# Altium footprint library Connector_Wuerth.PcbLib: 46 footprints (part 2 of 3)
Each footprint in its own frame and in the unit in brackets; x right, y up, seen from the top. Pads: shape width x height; smd on the part's side, far side on the other; paste and mask are expansions set on the pad; w line width, h text height; cw(c..) or ccw(c..) is an arc to the next point about the centre after c.
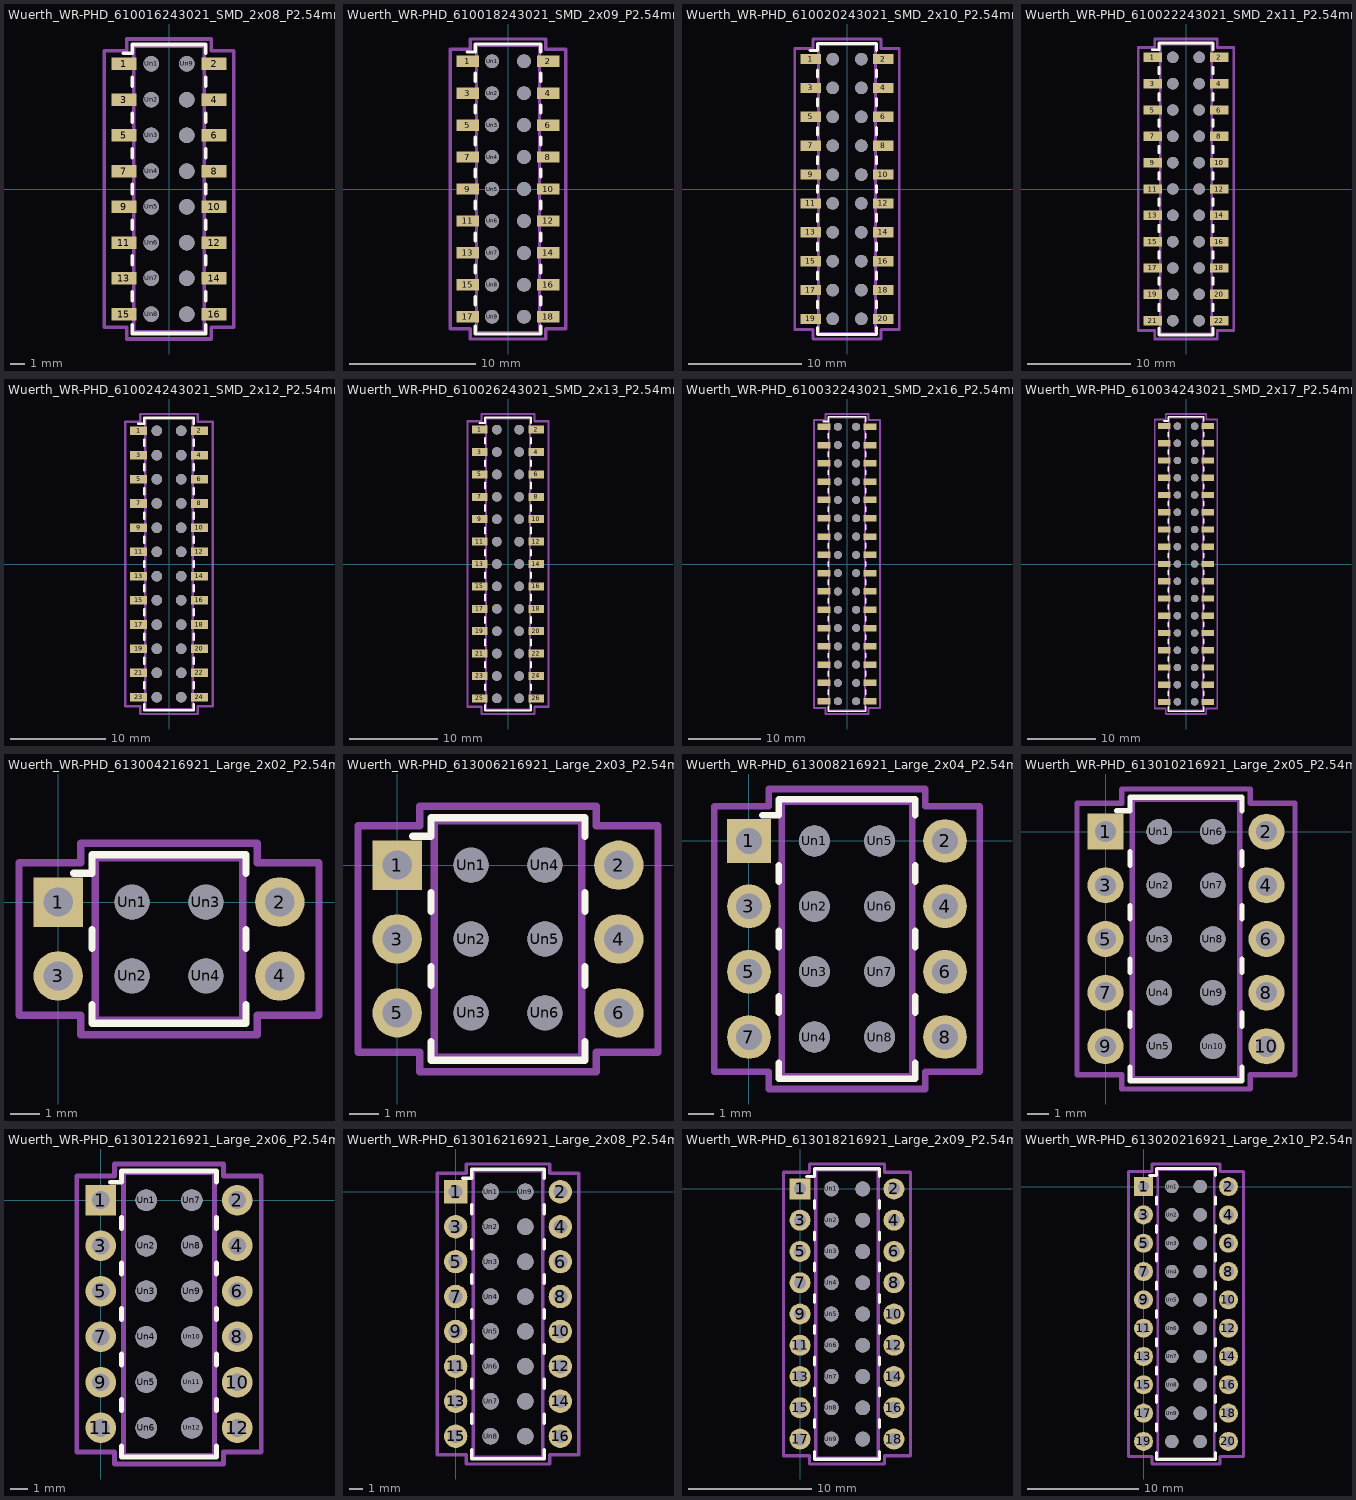
[diagram p1: the footprints below, top view; thin cyan lines are the x and y axes]

## Wuerth_WR-PHD_610016243021_SMD_2x08_P2.54mm_Vertical [mm]
pads (32):
  rect 1.8x0.9 smd: 1(-3.2,8.89) 2(3.2,8.89) 3(-3.2,6.35) 4(3.2,6.35) 5(-3.2,3.81) 6(3.2,3.81) 7(-3.2,1.27) 8(3.2,1.27) 9(-3.2,-1.27) 10(3.2,-1.27) 11(-3.2,-3.81) 12(3.2,-3.81) 13(-3.2,-6.35) 14(3.2,-6.35) 15(-3.2,-8.89) 16(3.2,-8.89)
  round 1.1 hole 1.1: Un1(-1.27,8.89) Un2(-1.27,6.35) Un3(-1.27,3.81) Un4(-1.27,1.27) Un5(-1.27,-1.27) Un6(-1.27,-3.81) Un7(-1.27,-6.35) Un8(-1.27,-8.89) Un9(1.27,8.89) Un10(1.27,6.35) Un11(1.27,3.81) Un12(1.27,1.27) Un13(1.27,-1.27) Un14(1.27,-3.81) Un15(1.27,-6.35) Un16(1.27,-8.89)
F.SilkS:
  lines w0.254: -3.245,9.635 -2.61,9.635 -2.61,10.27 2.61,10.27 2.61,9.635 ; -2.61,-9.635 -2.61,-10.27 2.61,-10.27 2.61,-9.635 ; -2.61,-7.938 -2.61,-7.302 ; -2.61,-5.397 -2.61,-4.763 ; -2.61,-2.857 -2.61,-2.222 ; -2.61,-0.318 -2.61,0.318 ; -2.61,2.222 -2.61,2.857 ; -2.61,4.763 -2.61,5.397 ; -2.61,7.302 -2.61,7.938 ; 2.61,-7.938 2.61,-7.302 ; 2.61,-5.397 2.61,-4.763 ; 2.61,-2.857 2.61,-2.222 ; 2.61,-0.318 2.61,0.318 ; 2.61,2.222 2.61,2.857 ; 2.61,4.763 2.61,5.397 ; 2.61,7.302 2.61,7.938
Top Assembly:
  lines w0.254: -2.5,-10.16 2.5,-10.16 2.5,10.16 -2.5,10.16 -2.5,-10.16
  text "'.Designator'" at -4.047,8.62 h1
Top Courtyard:
  lines w0.254: -4.6,-9.84 -3,-9.84 -3,-10.66 3,-10.66 3,-9.84 4.6,-9.84 4.6,9.84 3,9.84 3,10.66 -3,10.66 -3,9.84 -4.6,9.84 -4.6,-9.84
Top Designator:
  text ".Designator" at -7.618,-0.508 h1.52

## Wuerth_WR-PHD_610018243021_SMD_2x09_P2.54mm_Vertical [mm]
pads (36):
  rect 1.8x0.9 smd: 1(-3.2,10.16) 2(3.2,10.16) 3(-3.2,7.62) 4(3.2,7.62) 5(-3.2,5.08) 6(3.2,5.08) 7(-3.2,2.54) 8(3.2,2.54) 9(-3.2,0) 10(3.2,0) 11(-3.2,-2.54) 12(3.2,-2.54) 13(-3.2,-5.08) 14(3.2,-5.08) 15(-3.2,-7.62) 16(3.2,-7.62) 17(-3.2,-10.16) 18(3.2,-10.16)
  round 1.1 hole 1.1: Un1(-1.27,10.16) Un2(-1.27,7.62) Un3(-1.27,5.08) Un4(-1.27,2.54) Un5(-1.27,0) Un6(-1.27,-2.54) Un7(-1.27,-5.08) Un8(-1.27,-7.62) Un9(-1.27,-10.16) Un10(1.27,10.16) Un11(1.27,7.62) Un12(1.27,5.08) Un13(1.27,2.54) Un14(1.27,0) Un15(1.27,-2.54) Un16(1.27,-5.08) Un17(1.27,-7.62) Un18(1.27,-10.16)
F.SilkS:
  lines w0.254: -3.245,10.905 -2.61,10.905 -2.61,11.54 2.61,11.54 2.61,10.905 ; -2.61,-10.905 -2.61,-11.54 2.61,-11.54 2.61,-10.905 ; -2.61,-9.207 -2.61,-8.572 ; -2.61,-6.667 -2.61,-6.032 ; -2.61,-4.127 -2.61,-3.492 ; -2.61,-1.587 -2.61,-0.953 ; -2.61,0.953 -2.61,1.587 ; -2.61,3.492 -2.61,4.127 ; -2.61,6.032 -2.61,6.667 ; -2.61,8.572 -2.61,9.207 ; 2.61,-9.207 2.61,-8.572 ; 2.61,-6.667 2.61,-6.032 ; 2.61,-4.127 2.61,-3.492 ; 2.61,-1.587 2.61,-0.953 ; 2.61,0.953 2.61,1.587 ; 2.61,3.492 2.61,4.127 ; 2.61,6.032 2.61,6.667 ; 2.61,8.572 2.61,9.207
Top Assembly:
  lines w0.254: -2.5,-11.43 2.5,-11.43 2.5,11.43 -2.5,11.43 -2.5,-11.43
  text "'.Designator'" at -4.047,9.89 h1
Top Courtyard:
  lines w0.254: -4.6,-11.11 -3,-11.11 -3,-11.93 3,-11.93 3,-11.11 4.6,-11.11 4.6,11.11 3,11.11 3,11.93 -3,11.93 -3,11.11 -4.6,11.11 -4.6,-11.11
Top Designator:
  text ".Designator" at -7.618,-0.508 h1.52

## Wuerth_WR-PHD_610020243021_SMD_2x10_P2.54mm_Vertical [mm]
pads (40):
  rect 1.8x0.9 smd: 1(-3.2,11.43) 2(3.2,11.43) 3(-3.2,8.89) 4(3.2,8.89) 5(-3.2,6.35) 6(3.2,6.35) 7(-3.2,3.81) 8(3.2,3.81) 9(-3.2,1.27) 10(3.2,1.27) 11(-3.2,-1.27) 12(3.2,-1.27) 13(-3.2,-3.81) 14(3.2,-3.81) 15(-3.2,-6.35) 16(3.2,-6.35) 17(-3.2,-8.89) 18(3.2,-8.89) 19(-3.2,-11.43) 20(3.2,-11.43)
  round 1.1 hole 1.1: Un1(-1.27,11.43) Un2(-1.27,8.89) Un3(-1.27,6.35) Un4(-1.27,3.81) Un5(-1.27,1.27) Un6(-1.27,-1.27) Un7(-1.27,-3.81) Un8(-1.27,-6.35) Un9(-1.27,-8.89) Un10(-1.27,-11.43) Un11(1.27,11.43) Un12(1.27,8.89) Un13(1.27,6.35) Un14(1.27,3.81) Un15(1.27,1.27) Un16(1.27,-1.27) Un17(1.27,-3.81) Un18(1.27,-6.35) Un19(1.27,-8.89) Un20(1.27,-11.43)
F.SilkS:
  lines w0.254: -3.245,12.175 -2.61,12.175 -2.61,12.81 2.61,12.81 2.61,12.175 ; -2.61,-12.175 -2.61,-12.81 2.61,-12.81 2.61,-12.175 ; -2.61,-10.477 -2.61,-9.842 ; -2.61,-7.938 -2.61,-7.302 ; -2.61,-5.397 -2.61,-4.763 ; -2.61,-2.857 -2.61,-2.222 ; -2.61,-0.318 -2.61,0.318 ; -2.61,2.222 -2.61,2.857 ; -2.61,4.763 -2.61,5.397 ; -2.61,7.302 -2.61,7.938 ; -2.61,9.842 -2.61,10.477 ; 2.61,-10.477 2.61,-9.842 ; 2.61,-7.938 2.61,-7.302 ; 2.61,-5.397 2.61,-4.763 ; 2.61,-2.857 2.61,-2.222 ; 2.61,-0.318 2.61,0.318 ; 2.61,2.222 2.61,2.857 ; 2.61,4.763 2.61,5.397 ; 2.61,7.302 2.61,7.938 ; 2.61,9.842 2.61,10.477
Top Assembly:
  lines w0.254: -2.5,-12.7 2.5,-12.7 2.5,12.7 -2.5,12.7 -2.5,-12.7
  text "'.Designator'" at -4.047,11.16 h1
Top Courtyard:
  lines w0.254: -4.6,-12.38 -3,-12.38 -3,-13.2 3,-13.2 3,-12.38 4.6,-12.38 4.6,12.38 3,12.38 3,13.2 -3,13.2 -3,12.38 -4.6,12.38 -4.6,-12.38
Top Designator:
  text ".Designator" at -7.618,-0.508 h1.52

## Wuerth_WR-PHD_610022243021_SMD_2x11_P2.54mm_Vertical [mm]
pads (44):
  rect 1.8x0.9 smd: 1(-3.2,12.7) 2(3.2,12.7) 3(-3.2,10.16) 4(3.2,10.16) 5(-3.2,7.62) 6(3.2,7.62) 7(-3.2,5.08) 8(3.2,5.08) 9(-3.2,2.54) 10(3.2,2.54) 11(-3.2,0) 12(3.2,0) 13(-3.2,-2.54) 14(3.2,-2.54) 15(-3.2,-5.08) 16(3.2,-5.08) 17(-3.2,-7.62) 18(3.2,-7.62) 19(-3.2,-10.16) 20(3.2,-10.16) 21(-3.2,-12.7) 22(3.2,-12.7)
  round 1.1 hole 1.1: Un1(-1.27,12.7) Un2(-1.27,10.16) Un3(-1.27,7.62) Un4(-1.27,5.08) Un5(-1.27,2.54) Un6(-1.27,0) Un7(-1.27,-2.54) Un8(-1.27,-5.08) Un9(-1.27,-7.62) Un10(-1.27,-10.16) Un11(-1.27,-12.7) Un12(1.27,12.7) Un13(1.27,10.16) Un14(1.27,7.62) Un15(1.27,5.08) Un16(1.27,2.54) Un17(1.27,0) Un18(1.27,-2.54) Un19(1.27,-5.08) Un20(1.27,-7.62) Un21(1.27,-10.16) Un22(1.27,-12.7)
F.SilkS:
  lines w0.254: -3.245,13.445 -2.61,13.445 -2.61,14.08 2.61,14.08 2.61,13.445 ; -2.61,-13.445 -2.61,-14.08 2.61,-14.08 2.61,-13.445 ; -2.61,-11.747 -2.61,-11.112 ; -2.61,-9.207 -2.61,-8.572 ; -2.61,-6.667 -2.61,-6.032 ; -2.61,-4.127 -2.61,-3.492 ; -2.61,-1.587 -2.61,-0.953 ; -2.61,0.953 -2.61,1.587 ; -2.61,3.492 -2.61,4.127 ; -2.61,6.032 -2.61,6.667 ; -2.61,8.572 -2.61,9.207 ; -2.61,11.112 -2.61,11.747 ; 2.61,-11.747 2.61,-11.112 ; 2.61,-9.207 2.61,-8.572 ; 2.61,-6.667 2.61,-6.032 ; 2.61,-4.127 2.61,-3.492 ; 2.61,-1.587 2.61,-0.953 ; 2.61,0.953 2.61,1.587 ; 2.61,3.492 2.61,4.127 ; 2.61,6.032 2.61,6.667 ; 2.61,8.572 2.61,9.207 ; 2.61,11.112 2.61,11.747
Top Assembly:
  lines w0.254: -2.5,-13.97 2.5,-13.97 2.5,13.97 -2.5,13.97 -2.5,-13.97
  text "'.Designator'" at -4.047,12.43 h1
Top Courtyard:
  lines w0.254: -4.6,-13.65 -3,-13.65 -3,-14.47 3,-14.47 3,-13.65 4.6,-13.65 4.6,13.65 3,13.65 3,14.47 -3,14.47 -3,13.65 -4.6,13.65 -4.6,-13.65
Top Designator:
  text ".Designator" at -7.618,-0.508 h1.52

## Wuerth_WR-PHD_610024243021_SMD_2x12_P2.54mm_Vertical [mm]
pads (48):
  rect 1.8x0.9 smd: 1(-3.2,13.97) 2(3.2,13.97) 3(-3.2,11.43) 4(3.2,11.43) 5(-3.2,8.89) 6(3.2,8.89) 7(-3.2,6.35) 8(3.2,6.35) 9(-3.2,3.81) 10(3.2,3.81) 11(-3.2,1.27) 12(3.2,1.27) 13(-3.2,-1.27) 14(3.2,-1.27) 15(-3.2,-3.81) 16(3.2,-3.81) 17(-3.2,-6.35) 18(3.2,-6.35) 19(-3.2,-8.89) 20(3.2,-8.89) 21(-3.2,-11.43) 22(3.2,-11.43) 23(-3.2,-13.97) 24(3.2,-13.97)
  round 1.1 hole 1.1: Un1(-1.27,13.97) Un2(-1.27,11.43) Un3(-1.27,8.89) Un4(-1.27,6.35) Un5(-1.27,3.81) Un6(-1.27,1.27) Un7(-1.27,-1.27) Un8(-1.27,-3.81) Un9(-1.27,-6.35) Un10(-1.27,-8.89) Un11(-1.27,-11.43) Un12(-1.27,-13.97) Un13(1.27,13.97) Un14(1.27,11.43) Un15(1.27,8.89) Un16(1.27,6.35) Un17(1.27,3.81) Un18(1.27,1.27) Un19(1.27,-1.27) Un20(1.27,-3.81) Un21(1.27,-6.35) Un22(1.27,-8.89) Un23(1.27,-11.43) Un24(1.27,-13.97)
F.SilkS:
  lines w0.254: -3.245,14.715 -2.61,14.715 -2.61,15.35 2.61,15.35 2.61,14.715 ; -2.61,-14.715 -2.61,-15.35 2.61,-15.35 2.61,-14.715 ; -2.61,-13.018 -2.61,-12.383 ; -2.61,-10.477 -2.61,-9.842 ; -2.61,-7.938 -2.61,-7.302 ; -2.61,-5.397 -2.61,-4.763 ; -2.61,-2.857 -2.61,-2.222 ; -2.61,-0.318 -2.61,0.318 ; -2.61,2.222 -2.61,2.857 ; -2.61,4.763 -2.61,5.397 ; -2.61,7.302 -2.61,7.938 ; -2.61,9.842 -2.61,10.477 ; -2.61,12.383 -2.61,13.018 ; 2.61,-13.018 2.61,-12.383 ; 2.61,-10.477 2.61,-9.842 ; 2.61,-7.938 2.61,-7.302 ; 2.61,-5.397 2.61,-4.763 ; 2.61,-2.857 2.61,-2.222 ; 2.61,-0.318 2.61,0.318 ; 2.61,2.222 2.61,2.857 ; 2.61,4.763 2.61,5.397 ; 2.61,7.302 2.61,7.938 ; 2.61,9.842 2.61,10.477 ; 2.61,12.383 2.61,13.018
Top Assembly:
  lines w0.254: -2.5,-15.24 2.5,-15.24 2.5,15.24 -2.5,15.24 -2.5,-15.24
  text "'.Designator'" at -4.047,13.7 h1
Top Courtyard:
  lines w0.254: -4.6,-14.92 -3,-14.92 -3,-15.74 3,-15.74 3,-14.92 4.6,-14.92 4.6,14.92 3,14.92 3,15.74 -3,15.74 -3,14.92 -4.6,14.92 -4.6,-14.92
Top Designator:
  text ".Designator" at -7.618,-0.508 h1.52

## Wuerth_WR-PHD_610026243021_SMD_2x13_P2.54mm_Vertical [mm]
pads (52):
  rect 1.8x0.9 smd: 1(-3.2,15.24) 2(3.2,15.24) 3(-3.2,12.7) 4(3.2,12.7) 5(-3.2,10.16) 6(3.2,10.16) 7(-3.2,7.62) 8(3.2,7.62) 9(-3.2,5.08) 10(3.2,5.08) 11(-3.2,2.54) 12(3.2,2.54) 13(-3.2,0) 14(3.2,0) 15(-3.2,-2.54) 16(3.2,-2.54) 17(-3.2,-5.08) 18(3.2,-5.08) 19(-3.2,-7.62) 20(3.2,-7.62) 21(-3.2,-10.16) 22(3.2,-10.16) 23(-3.2,-12.7) 24(3.2,-12.7) 25(-3.2,-15.24) 26(3.2,-15.24)
  round 1.1 hole 1.1: Un1(-1.27,15.24) Un2(-1.27,12.7) Un3(-1.27,10.16) Un4(-1.27,7.62) Un5(-1.27,5.08) Un6(-1.27,2.54) Un7(-1.27,0) Un8(-1.27,-2.54) Un9(-1.27,-5.08) Un10(-1.27,-7.62) Un11(-1.27,-10.16) Un12(-1.27,-12.7) Un13(-1.27,-15.24) Un14(1.27,15.24) Un15(1.27,12.7) Un16(1.27,10.16) Un17(1.27,7.62) Un18(1.27,5.08) Un19(1.27,2.54) Un20(1.27,0) Un21(1.27,-2.54) Un22(1.27,-5.08) Un23(1.27,-7.62) Un24(1.27,-10.16) Un25(1.27,-12.7) Un26(1.27,-15.24)
F.SilkS:
  lines w0.254: -3.245,15.985 -2.61,15.985 -2.61,16.62 2.61,16.62 2.61,15.985 ; -2.61,-15.985 -2.61,-16.62 2.61,-16.62 2.61,-15.985 ; -2.61,-14.287 -2.61,-13.652 ; -2.61,-11.747 -2.61,-11.112 ; -2.61,-9.207 -2.61,-8.572 ; -2.61,-6.667 -2.61,-6.032 ; -2.61,-4.127 -2.61,-3.492 ; -2.61,-1.587 -2.61,-0.953 ; -2.61,0.953 -2.61,1.587 ; -2.61,3.492 -2.61,4.127 ; -2.61,6.032 -2.61,6.667 ; -2.61,8.572 -2.61,9.207 ; -2.61,11.112 -2.61,11.747 ; -2.61,13.652 -2.61,14.287 ; 2.61,-14.287 2.61,-13.652 ; 2.61,-11.747 2.61,-11.112 ; 2.61,-9.207 2.61,-8.572 ; 2.61,-6.667 2.61,-6.032 ; 2.61,-4.127 2.61,-3.492 ; 2.61,-1.587 2.61,-0.953 ; 2.61,0.953 2.61,1.587 ; 2.61,3.492 2.61,4.127 ; 2.61,6.032 2.61,6.667 ; 2.61,8.572 2.61,9.207 ; 2.61,11.112 2.61,11.747 ; 2.61,13.652 2.61,14.287
Top Assembly:
  lines w0.254: -2.5,-16.51 2.5,-16.51 2.5,16.51 -2.5,16.51 -2.5,-16.51
  text "'.Designator'" at -4.047,14.97 h1
Top Courtyard:
  lines w0.254: -4.6,-16.19 -3,-16.19 -3,-17.01 3,-17.01 3,-16.19 4.6,-16.19 4.6,16.19 3,16.19 3,17.01 -3,17.01 -3,16.19 -4.6,16.19 -4.6,-16.19
Top Designator:
  text ".Designator" at -7.618,-0.508 h1.52

## Wuerth_WR-PHD_610032243021_SMD_2x16_P2.54mm_Vertical [mm]
pads (64):
  rect 1.8x0.9 smd: 1(-3.2,19.05) 2(3.2,19.05) 3(-3.2,16.51) 4(3.2,16.51) 5(-3.2,13.97) 6(3.2,13.97) 7(-3.2,11.43) 8(3.2,11.43) 9(-3.2,8.89) 10(3.2,8.89) 11(-3.2,6.35) 12(3.2,6.35) 13(-3.2,3.81) 14(3.2,3.81) 15(-3.2,1.27) 16(3.2,1.27) 17(-3.2,-1.27) 18(3.2,-1.27) 19(-3.2,-3.81) 20(3.2,-3.81) 21(-3.2,-6.35) 22(3.2,-6.35) 23(-3.2,-8.89) 24(3.2,-8.89) 25(-3.2,-11.43) 26(3.2,-11.43) 27(-3.2,-13.97) 28(3.2,-13.97) 29(-3.2,-16.51) 30(3.2,-16.51) 31(-3.2,-19.05) 32(3.2,-19.05)
  round 1.1 hole 1.1: Un1(-1.27,19.05) Un2(-1.27,16.51) Un3(-1.27,13.97) Un4(-1.27,11.43) Un5(-1.27,8.89) Un6(-1.27,6.35) Un7(-1.27,3.81) Un8(-1.27,1.27) Un9(-1.27,-1.27) Un10(-1.27,-3.81) Un11(-1.27,-6.35) Un12(-1.27,-8.89) Un13(-1.27,-11.43) Un14(-1.27,-13.97) Un15(-1.27,-16.51) Un16(-1.27,-19.05) Un17(1.27,19.05) Un18(1.27,16.51) Un19(1.27,13.97) Un20(1.27,11.43) Un21(1.27,8.89) Un22(1.27,6.35) Un23(1.27,3.81) Un24(1.27,1.27) Un25(1.27,-1.27) Un26(1.27,-3.81) Un27(1.27,-6.35) Un28(1.27,-8.89) Un29(1.27,-11.43) Un30(1.27,-13.97) Un31(1.27,-16.51) Un32(1.27,-19.05)
F.SilkS:
  lines w0.254: -3.245,19.795 -2.61,19.795 -2.61,20.43 2.61,20.43 2.61,19.795 ; -2.61,-19.795 -2.61,-20.43 2.61,-20.43 2.61,-19.795 ; -2.61,-18.098 -2.61,-17.462 ; -2.61,-15.557 -2.61,-14.922 ; -2.61,-13.018 -2.61,-12.383 ; -2.61,-10.477 -2.61,-9.842 ; -2.61,-7.938 -2.61,-7.302 ; -2.61,-5.397 -2.61,-4.763 ; -2.61,-2.857 -2.61,-2.222 ; -2.61,-0.318 -2.61,0.318 ; -2.61,2.222 -2.61,2.857 ; -2.61,4.763 -2.61,5.397 ; -2.61,7.302 -2.61,7.938 ; -2.61,9.842 -2.61,10.477 ; -2.61,12.383 -2.61,13.018 ; -2.61,14.922 -2.61,15.557 ; -2.61,17.462 -2.61,18.098 ; 2.61,-18.098 2.61,-17.462 ; 2.61,-15.557 2.61,-14.922 ; 2.61,-13.018 2.61,-12.383 ; 2.61,-10.477 2.61,-9.842 ; 2.61,-7.938 2.61,-7.302 ; 2.61,-5.397 2.61,-4.763 ; 2.61,-2.857 2.61,-2.222 ; 2.61,-0.318 2.61,0.318 ; 2.61,2.222 2.61,2.857 ; 2.61,4.763 2.61,5.397 ; 2.61,7.302 2.61,7.938 ; 2.61,9.842 2.61,10.477 ; 2.61,12.383 2.61,13.018 ; 2.61,14.922 2.61,15.557 ; 2.61,17.462 2.61,18.098
Top Assembly:
  lines w0.254: -2.5,-20.32 2.5,-20.32 2.5,20.32 -2.5,20.32 -2.5,-20.32
  text "'.Designator'" at -4.047,18.78 h1
Top Courtyard:
  lines w0.254: -4.6,-20 -3,-20 -3,-20.82 3,-20.82 3,-20 4.6,-20 4.6,20 3,20 3,20.82 -3,20.82 -3,20 -4.6,20 -4.6,-20
Top Designator:
  text ".Designator" at -7.618,-0.508 h1.52

## Wuerth_WR-PHD_610034243021_SMD_2x17_P2.54mm_Vertical [mm]
pads (68):
  rect 1.8x0.9 smd: 1(-3.2,20.32) 2(3.2,20.32) 3(-3.2,17.78) 4(3.2,17.78) 5(-3.2,15.24) 6(3.2,15.24) 7(-3.2,12.7) 8(3.2,12.7) 9(-3.2,10.16) 10(3.2,10.16) 11(-3.2,7.62) 12(3.2,7.62) 13(-3.2,5.08) 14(3.2,5.08) 15(-3.2,2.54) 16(3.2,2.54) 17(-3.2,0) 18(3.2,0) 19(-3.2,-2.54) 20(3.2,-2.54) 21(-3.2,-5.08) 22(3.2,-5.08) 23(-3.2,-7.62) 24(3.2,-7.62) 25(-3.2,-10.16) 26(3.2,-10.16) 27(-3.2,-12.7) 28(3.2,-12.7) 29(-3.2,-15.24) 30(3.2,-15.24) 31(-3.2,-17.78) 32(3.2,-17.78) 33(-3.2,-20.32) 34(3.2,-20.32)
  round 1.1 hole 1.1: Un1(-1.27,20.32) Un2(-1.27,17.78) Un3(-1.27,15.24) Un4(-1.27,12.7) Un5(-1.27,10.16) Un6(-1.27,7.62) Un7(-1.27,5.08) Un8(-1.27,2.54) Un9(-1.27,0) Un10(-1.27,-2.54) Un11(-1.27,-5.08) Un12(-1.27,-7.62) Un13(-1.27,-10.16) Un14(-1.27,-12.7) Un15(-1.27,-15.24) Un16(-1.27,-17.78) Un17(-1.27,-20.32) Un18(1.27,20.32) Un19(1.27,17.78) Un20(1.27,15.24) Un21(1.27,12.7) Un22(1.27,10.16) Un23(1.27,7.62) Un24(1.27,5.08) Un25(1.27,2.54) Un26(1.27,0) Un27(1.27,-2.54) Un28(1.27,-5.08) Un29(1.27,-7.62) Un30(1.27,-10.16) Un31(1.27,-12.7) Un32(1.27,-15.24) Un33(1.27,-17.78) Un34(1.27,-20.32)
F.SilkS:
  lines w0.254: -3.245,21.065 -2.61,21.065 -2.61,21.7 2.61,21.7 2.61,21.065 ; -2.61,-21.065 -2.61,-21.7 2.61,-21.7 2.61,-21.065 ; -2.61,-19.367 -2.61,-18.732 ; -2.61,-16.828 -2.61,-16.192 ; -2.61,-14.287 -2.61,-13.652 ; -2.61,-11.747 -2.61,-11.112 ; -2.61,-9.207 -2.61,-8.572 ; -2.61,-6.667 -2.61,-6.032 ; -2.61,-4.127 -2.61,-3.492 ; -2.61,-1.587 -2.61,-0.953 ; -2.61,0.953 -2.61,1.587 ; -2.61,3.492 -2.61,4.127 ; -2.61,6.032 -2.61,6.667 ; -2.61,8.572 -2.61,9.207 ; -2.61,11.112 -2.61,11.747 ; -2.61,13.652 -2.61,14.287 ; -2.61,16.192 -2.61,16.828 ; -2.61,18.732 -2.61,19.367 ; 2.61,-19.367 2.61,-18.732 ; 2.61,-16.828 2.61,-16.192 ; 2.61,-14.287 2.61,-13.652 ; 2.61,-11.747 2.61,-11.112 ; 2.61,-9.207 2.61,-8.572 ; 2.61,-6.667 2.61,-6.032 ; 2.61,-4.127 2.61,-3.492 ; 2.61,-1.587 2.61,-0.953 ; 2.61,0.953 2.61,1.587 ; 2.61,3.492 2.61,4.127 ; 2.61,6.032 2.61,6.667 ; 2.61,8.572 2.61,9.207 ; 2.61,11.112 2.61,11.747 ; 2.61,13.652 2.61,14.287 ; 2.61,16.192 2.61,16.828 ; 2.61,18.732 2.61,19.367
Top Assembly:
  lines w0.254: -2.5,-21.59 2.5,-21.59 2.5,21.59 -2.5,21.59 -2.5,-21.59
  text "'.Designator'" at -4.047,20.05 h1
Top Courtyard:
  lines w0.254: -4.6,-21.27 -3,-21.27 -3,-22.09 3,-22.09 3,-21.27 4.6,-21.27 4.6,21.27 3,21.27 3,22.09 -3,22.09 -3,21.27 -4.6,21.27 -4.6,-21.27
Top Designator:
  text ".Designator" at -7.618,-0.508 h1.52

## Wuerth_WR-PHD_613004216921_Large_2x02_P2.54mm_Vertical [mm]
pads (8):
  rect 1.7x1.7 hole 1: 1(0,0)
  round 1.7 hole 1: 2(7.62,0) 3(0,-2.54) 4(7.62,-2.54)
  round 1.2 hole 1.2: Un1(2.54,0) Un2(2.54,-2.54) Un3(5.08,0) Un4(5.08,-2.54)
F.SilkS:
  lines w0.254: 0.525,0.995 1.16,0.995 1.16,1.63 6.46,1.63 6.46,0.995 ; 1.16,-3.535 1.16,-4.17 6.46,-4.17 6.46,-3.535 ; 1.16,-1.587 1.16,-0.953 ; 6.46,-1.587 6.46,-0.953
Top Assembly:
  lines w0.254: 1.27,-4.06 6.35,-4.06 6.35,1.52 1.27,1.52 1.27,-4.06
  text "'.Designator'" at -0.237,-0.02 h1
Top Courtyard:
  lines w0.254: -1.35,-3.89 0.77,-3.89 0.77,-4.56 6.85,-4.56 6.85,-3.89 8.97,-3.89 8.97,1.35 6.85,1.35 6.85,2.02 0.77,2.02 0.77,1.35 -1.35,1.35 -1.35,-3.89
Top Designator:
  text ".Designator" at -3.808,-1.778 h1.52

## Wuerth_WR-PHD_613006216921_Large_2x03_P2.54mm_Vertical [mm]
pads (12):
  rect 1.7x1.7 hole 1: 1(0,0)
  round 1.7 hole 1: 2(7.62,0) 3(0,-2.54) 4(7.62,-2.54) 5(0,-5.08) 6(7.62,-5.08)
  round 1.2 hole 1.2: Un1(2.54,0) Un2(2.54,-2.54) Un3(2.54,-5.08) Un4(5.08,0) Un5(5.08,-2.54) Un6(5.08,-5.08)
F.SilkS:
  lines w0.254: 0.525,0.995 1.16,0.995 1.16,1.63 6.46,1.63 6.46,0.995 ; 1.16,-6.075 1.16,-6.71 6.46,-6.71 6.46,-6.075 ; 1.16,-4.127 1.16,-3.492 ; 1.16,-1.587 1.16,-0.953 ; 6.46,-4.127 6.46,-3.492 ; 6.46,-1.587 6.46,-0.953
Top Assembly:
  lines w0.254: 1.27,-6.6 6.35,-6.6 6.35,1.52 1.27,1.52 1.27,-6.6
  text "'.Designator'" at -0.237,-0.02 h1
Top Courtyard:
  lines w0.254: -1.35,-6.43 0.77,-6.43 0.77,-7.1 6.85,-7.1 6.85,-6.43 8.97,-6.43 8.97,1.35 6.85,1.35 6.85,2.02 0.77,2.02 0.77,1.35 -1.35,1.35 -1.35,-6.43
Top Designator:
  text ".Designator" at -3.808,-3.048 h1.52

## Wuerth_WR-PHD_613008216921_Large_2x04_P2.54mm_Vertical [mm]
pads (16):
  rect 1.7x1.7 hole 1: 1(0,0)
  round 1.7 hole 1: 2(7.62,0) 3(0,-2.54) 4(7.62,-2.54) 5(0,-5.08) 6(7.62,-5.08) 7(0,-7.62) 8(7.62,-7.62)
  round 1.2 hole 1.2: Un1(2.54,0) Un2(2.54,-2.54) Un3(2.54,-5.08) Un4(2.54,-7.62) Un5(5.08,0) Un6(5.08,-2.54) Un7(5.08,-5.08) Un8(5.08,-7.62)
F.SilkS:
  lines w0.254: 0.525,0.995 1.16,0.995 1.16,1.63 6.46,1.63 6.46,0.995 ; 1.16,-8.615 1.16,-9.25 6.46,-9.25 6.46,-8.615 ; 1.16,-6.667 1.16,-6.032 ; 1.16,-4.127 1.16,-3.492 ; 1.16,-1.587 1.16,-0.953 ; 6.46,-6.667 6.46,-6.032 ; 6.46,-4.127 6.46,-3.492 ; 6.46,-1.587 6.46,-0.953
Top Assembly:
  lines w0.254: 1.27,-9.14 6.35,-9.14 6.35,1.52 1.27,1.52 1.27,-9.14
  text "'.Designator'" at -0.237,-0.02 h1
Top Courtyard:
  lines w0.254: -1.35,-8.97 0.77,-8.97 0.77,-9.64 6.85,-9.64 6.85,-8.97 8.97,-8.97 8.97,1.35 6.85,1.35 6.85,2.02 0.77,2.02 0.77,1.35 -1.35,1.35 -1.35,-8.97
Top Designator:
  text ".Designator" at -3.808,-4.318 h1.52

## Wuerth_WR-PHD_613010216921_Large_2x05_P2.54mm_Vertical [mm]
pads (20):
  rect 1.7x1.7 hole 1: 1(0,0)
  round 1.7 hole 1: 2(7.62,0) 3(0,-2.54) 4(7.62,-2.54) 5(0,-5.08) 6(7.62,-5.08) 7(0,-7.62) 8(7.62,-7.62) 9(0,-10.16) 10(7.62,-10.16)
  round 1.2 hole 1.2: Un1(2.54,0) Un2(2.54,-2.54) Un3(2.54,-5.08) Un4(2.54,-7.62) Un5(2.54,-10.16) Un6(5.08,0) Un7(5.08,-2.54) Un8(5.08,-5.08) Un9(5.08,-7.62) Un10(5.08,-10.16)
F.SilkS:
  lines w0.254: 0.525,0.995 1.16,0.995 1.16,1.63 6.46,1.63 6.46,0.995 ; 1.16,-11.155 1.16,-11.79 6.46,-11.79 6.46,-11.155 ; 1.16,-9.207 1.16,-8.572 ; 1.16,-6.667 1.16,-6.032 ; 1.16,-4.127 1.16,-3.492 ; 1.16,-1.587 1.16,-0.953 ; 6.46,-9.207 6.46,-8.572 ; 6.46,-6.667 6.46,-6.032 ; 6.46,-4.127 6.46,-3.492 ; 6.46,-1.587 6.46,-0.953
Top Assembly:
  lines w0.254: 1.27,-11.68 6.35,-11.68 6.35,1.52 1.27,1.52 1.27,-11.68
  text "'.Designator'" at -0.237,-0.02 h1
Top Courtyard:
  lines w0.254: -1.35,-11.51 0.77,-11.51 0.77,-12.18 6.85,-12.18 6.85,-11.51 8.97,-11.51 8.97,1.35 6.85,1.35 6.85,2.02 0.77,2.02 0.77,1.35 -1.35,1.35 -1.35,-11.51
Top Designator:
  text ".Designator" at -3.808,-5.588 h1.52

## Wuerth_WR-PHD_613012216921_Large_2x06_P2.54mm_Vertical [mm]
pads (24):
  rect 1.7x1.7 hole 1: 1(0,0)
  round 1.7 hole 1: 2(7.62,0) 3(0,-2.54) 4(7.62,-2.54) 5(0,-5.08) 6(7.62,-5.08) 7(0,-7.62) 8(7.62,-7.62) 9(0,-10.16) 10(7.62,-10.16) 11(0,-12.7) 12(7.62,-12.7)
  round 1.2 hole 1.2: Un1(2.54,0) Un2(2.54,-2.54) Un3(2.54,-5.08) Un4(2.54,-7.62) Un5(2.54,-10.16) Un6(2.54,-12.7) Un7(5.08,0) Un8(5.08,-2.54) Un9(5.08,-5.08) Un10(5.08,-7.62) Un11(5.08,-10.16) Un12(5.08,-12.7)
F.SilkS:
  lines w0.254: 0.525,0.995 1.16,0.995 1.16,1.63 6.46,1.63 6.46,0.995 ; 1.16,-13.695 1.16,-14.33 6.46,-14.33 6.46,-13.695 ; 1.16,-11.747 1.16,-11.112 ; 1.16,-9.207 1.16,-8.572 ; 1.16,-6.667 1.16,-6.032 ; 1.16,-4.127 1.16,-3.492 ; 1.16,-1.587 1.16,-0.953 ; 6.46,-11.747 6.46,-11.112 ; 6.46,-9.207 6.46,-8.572 ; 6.46,-6.667 6.46,-6.032 ; 6.46,-4.127 6.46,-3.492 ; 6.46,-1.587 6.46,-0.953
Top Assembly:
  lines w0.254: 1.27,-14.22 6.35,-14.22 6.35,1.52 1.27,1.52 1.27,-14.22
  text "'.Designator'" at -0.237,-0.02 h1
Top Courtyard:
  lines w0.254: -1.35,-14.05 0.77,-14.05 0.77,-14.72 6.85,-14.72 6.85,-14.05 8.97,-14.05 8.97,1.35 6.85,1.35 6.85,2.02 0.77,2.02 0.77,1.35 -1.35,1.35 -1.35,-14.05
Top Designator:
  text ".Designator" at -3.808,-6.858 h1.52

## Wuerth_WR-PHD_613016216921_Large_2x08_P2.54mm_Vertical [mm]
pads (32):
  rect 1.7x1.7 hole 1: 1(0,0)
  round 1.7 hole 1: 2(7.62,0) 3(0,-2.54) 4(7.62,-2.54) 5(0,-5.08) 6(7.62,-5.08) 7(0,-7.62) 8(7.62,-7.62) 9(0,-10.16) 10(7.62,-10.16) 11(0,-12.7) 12(7.62,-12.7) 13(0,-15.24) 14(7.62,-15.24) 15(0,-17.78) 16(7.62,-17.78)
  round 1.2 hole 1.2: Un1(2.54,0) Un2(2.54,-2.54) Un3(2.54,-5.08) Un4(2.54,-7.62) Un5(2.54,-10.16) Un6(2.54,-12.7) Un7(2.54,-15.24) Un8(2.54,-17.78) Un9(5.08,0) Un10(5.08,-2.54) Un11(5.08,-5.08) Un12(5.08,-7.62) Un13(5.08,-10.16) Un14(5.08,-12.7) Un15(5.08,-15.24) Un16(5.08,-17.78)
F.SilkS:
  lines w0.254: 0.525,0.995 1.16,0.995 1.16,1.63 6.46,1.63 6.46,0.995 ; 1.16,-18.775 1.16,-19.41 6.46,-19.41 6.46,-18.775 ; 1.16,-16.828 1.16,-16.192 ; 1.16,-14.287 1.16,-13.652 ; 1.16,-11.747 1.16,-11.112 ; 1.16,-9.207 1.16,-8.572 ; 1.16,-6.667 1.16,-6.032 ; 1.16,-4.127 1.16,-3.492 ; 1.16,-1.587 1.16,-0.953 ; 6.46,-16.828 6.46,-16.192 ; 6.46,-14.287 6.46,-13.652 ; 6.46,-11.747 6.46,-11.112 ; 6.46,-9.207 6.46,-8.572 ; 6.46,-6.667 6.46,-6.032 ; 6.46,-4.127 6.46,-3.492 ; 6.46,-1.587 6.46,-0.953
Top Assembly:
  lines w0.254: 1.27,-19.3 6.35,-19.3 6.35,1.52 1.27,1.52 1.27,-19.3
  text "'.Designator'" at -0.237,-0.02 h1
Top Courtyard:
  lines w0.254: -1.35,-19.13 0.77,-19.13 0.77,-19.8 6.85,-19.8 6.85,-19.13 8.97,-19.13 8.97,1.35 6.85,1.35 6.85,2.02 0.77,2.02 0.77,1.35 -1.35,1.35 -1.35,-19.13
Top Designator:
  text ".Designator" at -3.808,-9.398 h1.52

## Wuerth_WR-PHD_613018216921_Large_2x09_P2.54mm_Vertical [mm]
pads (36):
  rect 1.7x1.7 hole 1: 1(0,0)
  round 1.7 hole 1: 2(7.62,0) 3(0,-2.54) 4(7.62,-2.54) 5(0,-5.08) 6(7.62,-5.08) 7(0,-7.62) 8(7.62,-7.62) 9(0,-10.16) 10(7.62,-10.16) 11(0,-12.7) 12(7.62,-12.7) 13(0,-15.24) 14(7.62,-15.24) 15(0,-17.78) 16(7.62,-17.78) 17(0,-20.32) 18(7.62,-20.32)
  round 1.2 hole 1.2: Un1(2.54,0) Un2(2.54,-2.54) Un3(2.54,-5.08) Un4(2.54,-7.62) Un5(2.54,-10.16) Un6(2.54,-12.7) Un7(2.54,-15.24) Un8(2.54,-17.78) Un9(2.54,-20.32) Un10(5.08,0) Un11(5.08,-2.54) Un12(5.08,-5.08) Un13(5.08,-7.62) Un14(5.08,-10.16) Un15(5.08,-12.7) Un16(5.08,-15.24) Un17(5.08,-17.78) Un18(5.08,-20.32)
F.SilkS:
  lines w0.254: 0.525,0.995 1.16,0.995 1.16,1.63 6.46,1.63 6.46,0.995 ; 1.16,-21.315 1.16,-21.95 6.46,-21.95 6.46,-21.315 ; 1.16,-19.367 1.16,-18.732 ; 1.16,-16.828 1.16,-16.192 ; 1.16,-14.287 1.16,-13.652 ; 1.16,-11.747 1.16,-11.112 ; 1.16,-9.207 1.16,-8.572 ; 1.16,-6.667 1.16,-6.032 ; 1.16,-4.127 1.16,-3.492 ; 1.16,-1.587 1.16,-0.953 ; 6.46,-19.367 6.46,-18.732 ; 6.46,-16.828 6.46,-16.192 ; 6.46,-14.287 6.46,-13.652 ; 6.46,-11.747 6.46,-11.112 ; 6.46,-9.207 6.46,-8.572 ; 6.46,-6.667 6.46,-6.032 ; 6.46,-4.127 6.46,-3.492 ; 6.46,-1.587 6.46,-0.953
Top Assembly:
  lines w0.254: 1.27,-21.84 6.35,-21.84 6.35,1.52 1.27,1.52 1.27,-21.84
  text "'.Designator'" at -0.237,-0.02 h1
Top Courtyard:
  lines w0.254: -1.35,-21.67 0.77,-21.67 0.77,-22.34 6.85,-22.34 6.85,-21.67 8.97,-21.67 8.97,1.35 6.85,1.35 6.85,2.02 0.77,2.02 0.77,1.35 -1.35,1.35 -1.35,-21.67
Top Designator:
  text ".Designator" at -3.808,-10.668 h1.52

## Wuerth_WR-PHD_613020216921_Large_2x10_P2.54mm_Vertical [mm]
pads (40):
  rect 1.7x1.7 hole 1: 1(0,0)
  round 1.7 hole 1: 2(7.62,0) 3(0,-2.54) 4(7.62,-2.54) 5(0,-5.08) 6(7.62,-5.08) 7(0,-7.62) 8(7.62,-7.62) 9(0,-10.16) 10(7.62,-10.16) 11(0,-12.7) 12(7.62,-12.7) 13(0,-15.24) 14(7.62,-15.24) 15(0,-17.78) 16(7.62,-17.78) 17(0,-20.32) 18(7.62,-20.32) 19(0,-22.86) 20(7.62,-22.86)
  round 1.2 hole 1.2: Un1(2.54,0) Un2(2.54,-2.54) Un3(2.54,-5.08) Un4(2.54,-7.62) Un5(2.54,-10.16) Un6(2.54,-12.7) Un7(2.54,-15.24) Un8(2.54,-17.78) Un9(2.54,-20.32) Un10(2.54,-22.86) Un11(5.08,0) Un12(5.08,-2.54) Un13(5.08,-5.08) Un14(5.08,-7.62) Un15(5.08,-10.16) Un16(5.08,-12.7) Un17(5.08,-15.24) Un18(5.08,-17.78) Un19(5.08,-20.32) Un20(5.08,-22.86)
F.SilkS:
  lines w0.254: 0.525,0.995 1.16,0.995 1.16,1.63 6.46,1.63 6.46,0.995 ; 1.16,-23.855 1.16,-24.49 6.46,-24.49 6.46,-23.855 ; 1.16,-21.907 1.16,-21.273 ; 1.16,-19.367 1.16,-18.732 ; 1.16,-16.828 1.16,-16.192 ; 1.16,-14.287 1.16,-13.652 ; 1.16,-11.747 1.16,-11.112 ; 1.16,-9.207 1.16,-8.572 ; 1.16,-6.667 1.16,-6.032 ; 1.16,-4.127 1.16,-3.492 ; 1.16,-1.587 1.16,-0.953 ; 6.46,-21.907 6.46,-21.273 ; 6.46,-19.367 6.46,-18.732 ; 6.46,-16.828 6.46,-16.192 ; 6.46,-14.287 6.46,-13.652 ; 6.46,-11.747 6.46,-11.112 ; 6.46,-9.207 6.46,-8.572 ; 6.46,-6.667 6.46,-6.032 ; 6.46,-4.127 6.46,-3.492 ; 6.46,-1.587 6.46,-0.953
Top Assembly:
  lines w0.254: 1.27,-24.38 6.35,-24.38 6.35,1.52 1.27,1.52 1.27,-24.38
  text "'.Designator'" at -0.237,-0.02 h1
Top Courtyard:
  lines w0.254: -1.35,-24.21 0.77,-24.21 0.77,-24.88 6.85,-24.88 6.85,-24.21 8.97,-24.21 8.97,1.35 6.85,1.35 6.85,2.02 0.77,2.02 0.77,1.35 -1.35,1.35 -1.35,-24.21
Top Designator:
  text ".Designator" at -3.808,-11.938 h1.52